# Altium footprint library MyLib.PcbLib: 59 footprints (part 3 of 4)
Each footprint in its own frame and in the unit in brackets; x right, y up, seen from the top. Pads: shape width x height; smd on the part's side, far side on the other; paste and mask are expansions set on the pad; w line width, h text height; cw(c..) or ccw(c..) is an arc to the next point about the centre after c.
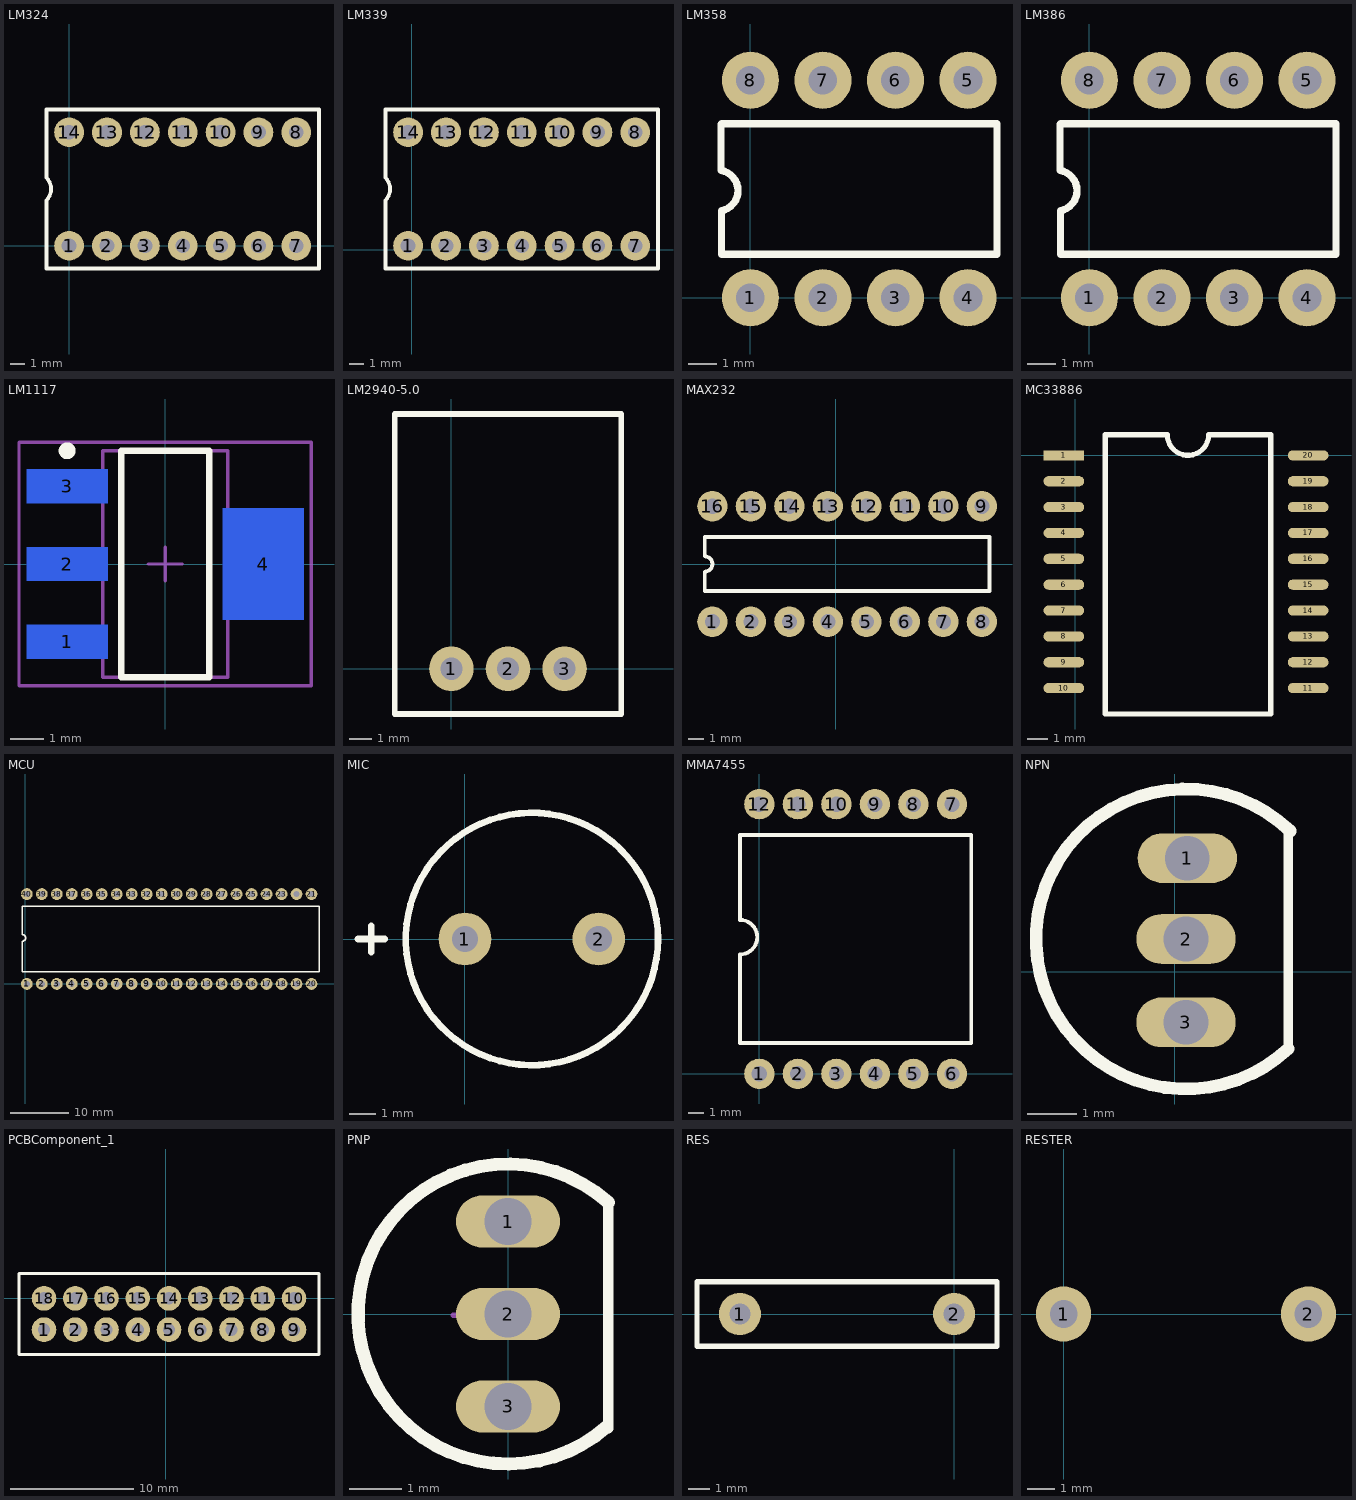
[diagram p2: the footprints below, top view; thin cyan lines are the x and y axes]

## LM324 [mm]
pads (14):
  round 2 hole 1: 1(0,0) 2(2.54,0) 3(5.08,0) 4(7.62,0) 5(10.16,0) 6(12.7,0) 7(15.24,0) 8(15.24,7.62) 9(12.7,7.62) 10(10.16,7.62) 11(7.62,7.62) 12(5.08,7.62) 13(2.54,7.62) 14(0,7.62)
Top Overlay:
  lines w0.254: -1.524,-1.524 16.764,-1.524 16.764,9.144 -1.524,9.144 -1.524,4.572 cw(c-2.286,3.81) -1.524,3.048 -1.524,-1.524

## LM339 [mm]
pads (14):
  round 2 hole 1: 1(-0.254,0.254) 2(2.286,0.254) 3(4.826,0.254) 4(7.366,0.254) 5(9.906,0.254) 6(12.446,0.254) 7(14.986,0.254) 8(14.986,7.874) 9(12.446,7.874) 10(9.906,7.874) 11(7.366,7.874) 12(4.826,7.874) 13(2.286,7.874) 14(-0.254,7.874)
Top Overlay:
  lines w0.254: -1.778,-1.27 -1.778,3.302 ccw(c-2.54,4.064) -1.778,4.826 -1.778,9.398 16.51,9.398 16.51,-1.27 -1.778,-1.27

## LM358 [mm]
pads (8):
  round 2 hole 1: 1(0,0) 2(2.54,0) 3(5.08,0) 4(7.62,0) 5(7.62,7.62) 6(5.08,7.62) 7(2.54,7.62) 8(0,7.62)
Top Overlay:
  lines w0.254: -1.034,6.078 -1.034,4.462 cw(c-1.153,3.753) -1.016,3.048 -1.016,1.524 8.636,1.524 8.636,6.096 7.366,6.096 -1.016,6.096

## LM386 [mm]
pads (8):
  round 2 hole 1: 1(0,0) 2(2.54,0) 3(5.08,0) 4(7.62,0) 5(7.62,7.62) 6(5.08,7.62) 7(2.54,7.62) 8(0,7.62)
Top Overlay:
  lines w0.254: -1.034,6.078 -1.034,4.462 cw(c-1.153,3.753) -1.016,3.048 -1.016,1.524 8.636,1.524 8.636,6.096 7.366,6.096 -1.016,6.096

## LM1117 [mm] "SOT223, 4-Leads, Body 6.7x7.3mm (max), Pitch 2.30mm, IPC Medium Density"
height 1.8
pads (4):
  rect 2.4x1 smd far side: 1(-2.9,-2.3) 2(-2.9,0) 3(-2.9,2.3)
  rect 2.4x3.3 smd far side: 4(2.9,0)
Top Overlay:
  circle w0.25: c-2.9,3.35 r0.125
  lines w0.2: -1.3,-3.35 -1.3,3.35 1.3,3.35 1.3,-3.35 -1.3,-3.35
Mechanical 13:
  lines w0.1: -1.85,-3.35 -1.85,3.35 1.85,3.35 1.85,-3.35 -1.85,-3.35
Mechanical 15:
  lines w0.1: -0.5,0 0.5,0 ; 0,-0.5 0,0.5 ; -4.325,-3.6 -4.325,3.6 4.325,3.6 4.325,-3.6 -4.325,-3.6
3D body: height 1.8, standoff 0.02, extent -1.85,-3.683 1.85,3.017

## LM2940-5.0 [mm]
pads (3):
  round 2 hole 1: 1(0,0) 2(2.54,0) 3(5.08,0)
Top Overlay:
  lines w0.254: -2.54,-2.032 7.62,-2.032 7.62,11.43 -2.54,11.43 -2.54,-2.032

## MAX232 [mm]
pads (16):
  round 2 hole 1: 1(-8.128,-3.81) 2(-5.588,-3.81) 3(-3.048,-3.81) 4(-0.508,-3.81) 5(2.032,-3.81) 6(4.572,-3.81) 7(7.112,-3.81) 8(9.652,-3.81) 9(9.652,3.81) 10(7.112,3.81) 11(4.572,3.81) 12(2.032,3.81) 13(-0.508,3.81) 14(-3.048,3.81) 15(-5.588,3.81) 16(-8.128,3.81)
Top Overlay:
  lines w0.254: -8.636,-1.778 -8.636,-0.508 ccw(c-8.636,0) -8.636,0.508 -8.636,1.778 -6.604,1.778 10.16,1.778 10.16,-1.778 -8.636,-1.778

## MC33886 [mm]
pads (20):
  rect 2x0.5 smd: 1(-0.57,0)
  oval 2x0.5 smd: 2(-0.57,-1.27) 3(-0.57,-2.54) 4(-0.57,-3.81) 5(-0.57,-5.08) 6(-0.57,-6.35) 7(-0.57,-7.62) 8(-0.57,-8.89) 9(-0.57,-10.16) 10(-0.57,-11.43) 11(11.43,-11.43) 12(11.43,-10.16) 13(11.43,-8.89) 14(11.43,-7.62) 15(11.43,-6.35) 16(11.43,-5.08) 17(11.43,-3.81) 18(11.43,-2.54) 19(11.43,-1.27) 20(11.43,0)
Top Overlay:
  lines w0.254: 1.462,-12.7 9.59,-12.7 9.59,1.016 6.542,1.016 cw(c5.526,1.016) 4.51,1.016 1.462,1.016 1.462,-12.7

## MCU [mm]
pads (40):
  round 2 hole 1: 1(0.254,0) 2(2.794,0) 3(5.334,0) 4(7.874,0) 5(10.414,0) 6(12.954,0) 7(15.494,0) 8(18.034,0) 9(20.574,0) 10(23.114,0) 11(25.654,0) 12(28.194,0) 13(30.734,0) 14(33.274,0) 15(35.814,0) 16(38.354,0) 17(40.894,0) 18(43.434,0) 19(45.974,0) 20(48.514,0) 21(48.514,15.24) "22 "(45.974,15.24) 23(43.434,15.24) 24(40.894,15.24) 25(38.354,15.24) 26(35.814,15.24) 27(33.274,15.24) 28(30.734,15.24) 29(28.194,15.24) 30(25.654,15.24) 31(23.114,15.24) 32(20.574,15.24) 33(18.034,15.24) 34(15.494,15.24) 35(12.954,15.24) 36(10.414,15.24) 37(7.874,15.24) 38(5.334,15.24) 39(2.794,15.24) 40(0.254,15.24)
Top Overlay:
  lines w0.254: -0.508,2.032 -0.508,2.286 -0.508,5.016 -0.508,7.246 ccw(c-0.508,7.814) -0.508,8.382 -0.508,10.477 -0.508,13.208 0.762,13.208 49.784,13.208 49.784,7.112 49.784,2.032 17.78,2.032 -0.508,2.032

## MIC [mm]
pads (2):
  round 2 hole 1: 1(0,0) 2(5.08,0)
Top Overlay:
  circle w0.254: c2.54,0 r4.792
  lines w0.254: -4.064,0 -3.048,0 ; -3.556,-0.508 -3.556,0.508

## MMA7455 [mm]
pads (12):
  round 2 hole 1: 1(0,0) 2(2.54,0) 3(5.08,0) 4(7.62,0) 5(10.16,0) 6(12.7,0) 7(12.7,17.78) 8(10.16,17.78) 9(7.62,17.78) 10(5.08,17.78) 11(2.54,17.78) 12(0,17.78)
Top Overlay:
  lines w0.254: -1.27,2.032 -1.27,7.874 ccw(c-1.27,9.01) -1.27,10.146 -1.27,15.748 13.97,15.748 13.97,2.032 -1.27,2.032

## NPN [mm]
pads (3):
  oval 2x1 hole 0.9: 1(0.254,2.286) 2(0.229,0.66) 3(0.229,-1.016)
Top Overlay:
  lines w0.2: 2.286,-1.548 2.286,2.794
  lines w0.254: 2.286,-1.548 cw(c0.229,0.66) 2.323,2.833

## PCBComponent_1 [mm]
pads (18):
  round 2 hole 1: 1(-9.906,-2.54) 2(-7.366,-2.54) 3(-4.826,-2.54) 4(-2.286,-2.54) 5(0.254,-2.54) 6(2.794,-2.54) 7(5.334,-2.54) 8(7.874,-2.54) 9(10.414,-2.54) 10(10.414,0) 11(7.874,0) 12(5.334,0) 13(2.794,0) 14(0.254,0) 15(-2.286,0) 16(-4.826,0) 17(-7.366,0) 18(-9.906,0)
Top Overlay:
  lines w0.254: -11.938,-4.572 -11.938,2.032 -10.668,2.032 12.446,2.032 12.446,-4.572 7.62,-4.572 -11.938,-4.572

## PNP [mm]
pads (3):
  oval 2x1 hole 0.9: 1(0,1.778) 2(0,0) 3(0,-1.778)
Top Overlay:
  lines w0.2: 1.926,-2.196 1.926,2.145
  lines w0.254: 1.901,-2.168 cw(c0,0) 1.926,2.145
Mechanical 15:
  lines w0.1: -1.052,-0.025 -0.052,-0.025

## RES [mm]
pads (2):
  round 2 hole 1: 1(-10.16,0) 2(0,0)
Top Overlay:
  lines w0.254: -12.192,-1.524 -12.192,1.524 2.032,1.524 2.032,-1.524 -12.192,-1.524

## RESTER [mm]
pads (2):
  round 2 hole 1: 1(0,0) 2(8.89,0)